# EAGLE library part LMZM23601V3SILT (library MCU_Print_V2)
Non-Isolated DC/DC Converters, IN 4...36V, UOT+3,3VDC / 1A, Step-Down DC-DC Power Module in 3.8-mm x 3-mm, Package 10-uSiP,Texas Instruments, Mouser : 595-LMZM23601V3SILT
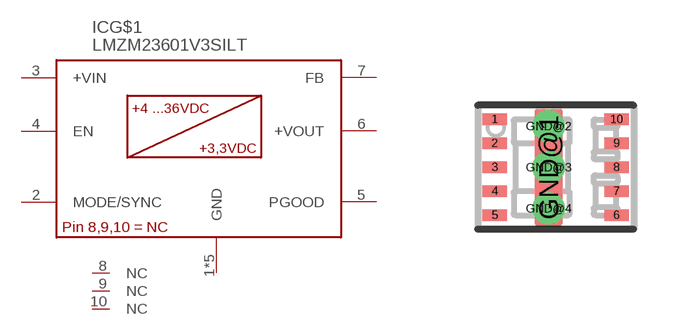
[diagram p4: symbol with the pads of USIP-10; footprint USIP-10]

Designator prefix IC; gates NC8=NC NC9=NC NC10=NC G$1=LMZM23601V3SILT

## LMZM23601V3SILT (CASE: uSiP-10; DIGI-KEY: 296-49461-1-ND; EFFICIENCY: 81%; INPUT-VOLTAGE: 4 V to 36 V; MANUFACTURER: Texas Instruments; MOUSER: 595-LMZM23601V3SILT; NUMBER-OF-OUT: 1; OPERATING-TEMPERATURE-RANGE: -40 °C ~ 125 °C; OUT: +3,3VDC; OUT-CURRENT: 1A; PRODUCT-TYPE: Non-Isolated DC-DC Converters)  [USIP-10]
1  G$1:GND  pwr
2  G$1:MODE/SYNC  in
3  G$1:+VIN  pas
4  G$1:EN  in
5  G$1:PGOOD  pas
6  G$1:+VOUT  pas
7  G$1:FB  pas
8  NC8:NC  nc
9  NC9:NC  nc
10  NC10:NC  nc
GND@1  G$1:GND  pwr
GND@2  G$1:GND  pwr
GND@3  G$1:GND  pwr
GND@4  G$1:GND  pwr

## Footprint USIP-10 (pad centres in mm)
Non-Isolated, Step-Down DC-DC Power Module Package/Case Size (uSIP-10) => 3,9 x 3,1 x 1,578 mm
smd 0.65 x 0.3: 1 -1.525,1.2; 2 -1.525,0.6; 3 -1.525,0; 4 -1.525,-0.6; 5 -1.525,-1.2; 6 1.525,-1.2; 7 1.525,-0.6; 8 1.525,0; 9 1.525,0.6; 10 1.525,1.2
smd 0.7 x 2.9: GND@1 -0.175,0
drill 0.3: GND@2 -0.175,1.03; GND@3 -0.175,0; GND@4 -0.175,-1.03